# EAGLE library part BME280 (library bosch)
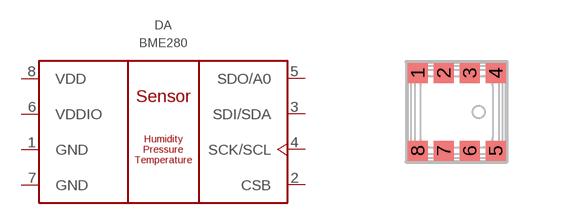
[diagram p0: symbol with the pads of LGA8-2.5; footprint LGA8-2.5]

Designator prefix DA

## BME280  [LGA8-2.5]
1  GND  pwr
2  CSB  in
3  SDI/SDA  in
4  SCK/SCL  in
5  SDO/A0  out
6  VDDIO  pwr
7  GND  pwr
8  VDD  pwr

## Footprint LGA8-2.5 (pad centres in mm)
smd 0.5 x 0.5: 1 -0.975,0.975; 2 -0.325,0.975; 3 0.325,0.975; 4 0.975,0.975; 5 0.975,-0.975; 6 0.325,-0.975; 7 -0.325,-0.975; 8 -0.975,-0.975